# EAGLE library part TPD1030F(TE12L,Q) (library Toshiba_By_element14_Batch_1)
2-IN-1 Low-Side Switch for Motor, Solenoid and Lamp Drive
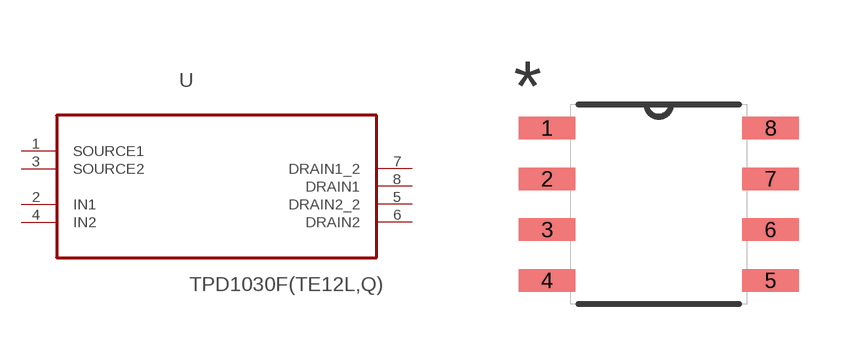
[diagram p0: symbol with the pads of SOP127P600X175-8N; footprint SOP127P600X175-8N]

Designator prefix U

## TPD1030F(TE12L,Q) (MPN: TPD1030F(TE12L,Q); OC_FARNELL: 1715928; OC_NEWARK: 34R5437; PACKAGE: SOP-8; SUPPLIER: TAIWAN SEMICONDUCTOR)  [SOP127P600X175-8N]
1  SOURCE1  in
2  IN1  in
3  SOURCE2  in
4  IN2  in
5  DRAIN2_2  out
6  DRAIN2  out
7  DRAIN1_2  out
8  DRAIN1  out

## Footprint SOP127P600X175-8N (pad centres in mm)
smd 1.422 x 0.559: 1 -2.794,1.905; 2 -2.794,0.635; 3 -2.794,-0.635; 4 -2.794,-1.905; 5 2.794,-1.905; 6 2.794,-0.635; 7 2.794,0.635; 8 2.794,1.905